# Altium footprint library 28pins_pcb_library.PcbLib: 27 footprints (part 1 of 2)
Each footprint in its own frame and in the unit in brackets; x right, y up, seen from the top. Pads: shape width x height; smd on the part's side, far side on the other; paste and mask are expansions set on the pad; w line width, h text height; cw(c..) or ccw(c..) is an arc to the next point about the centre after c.
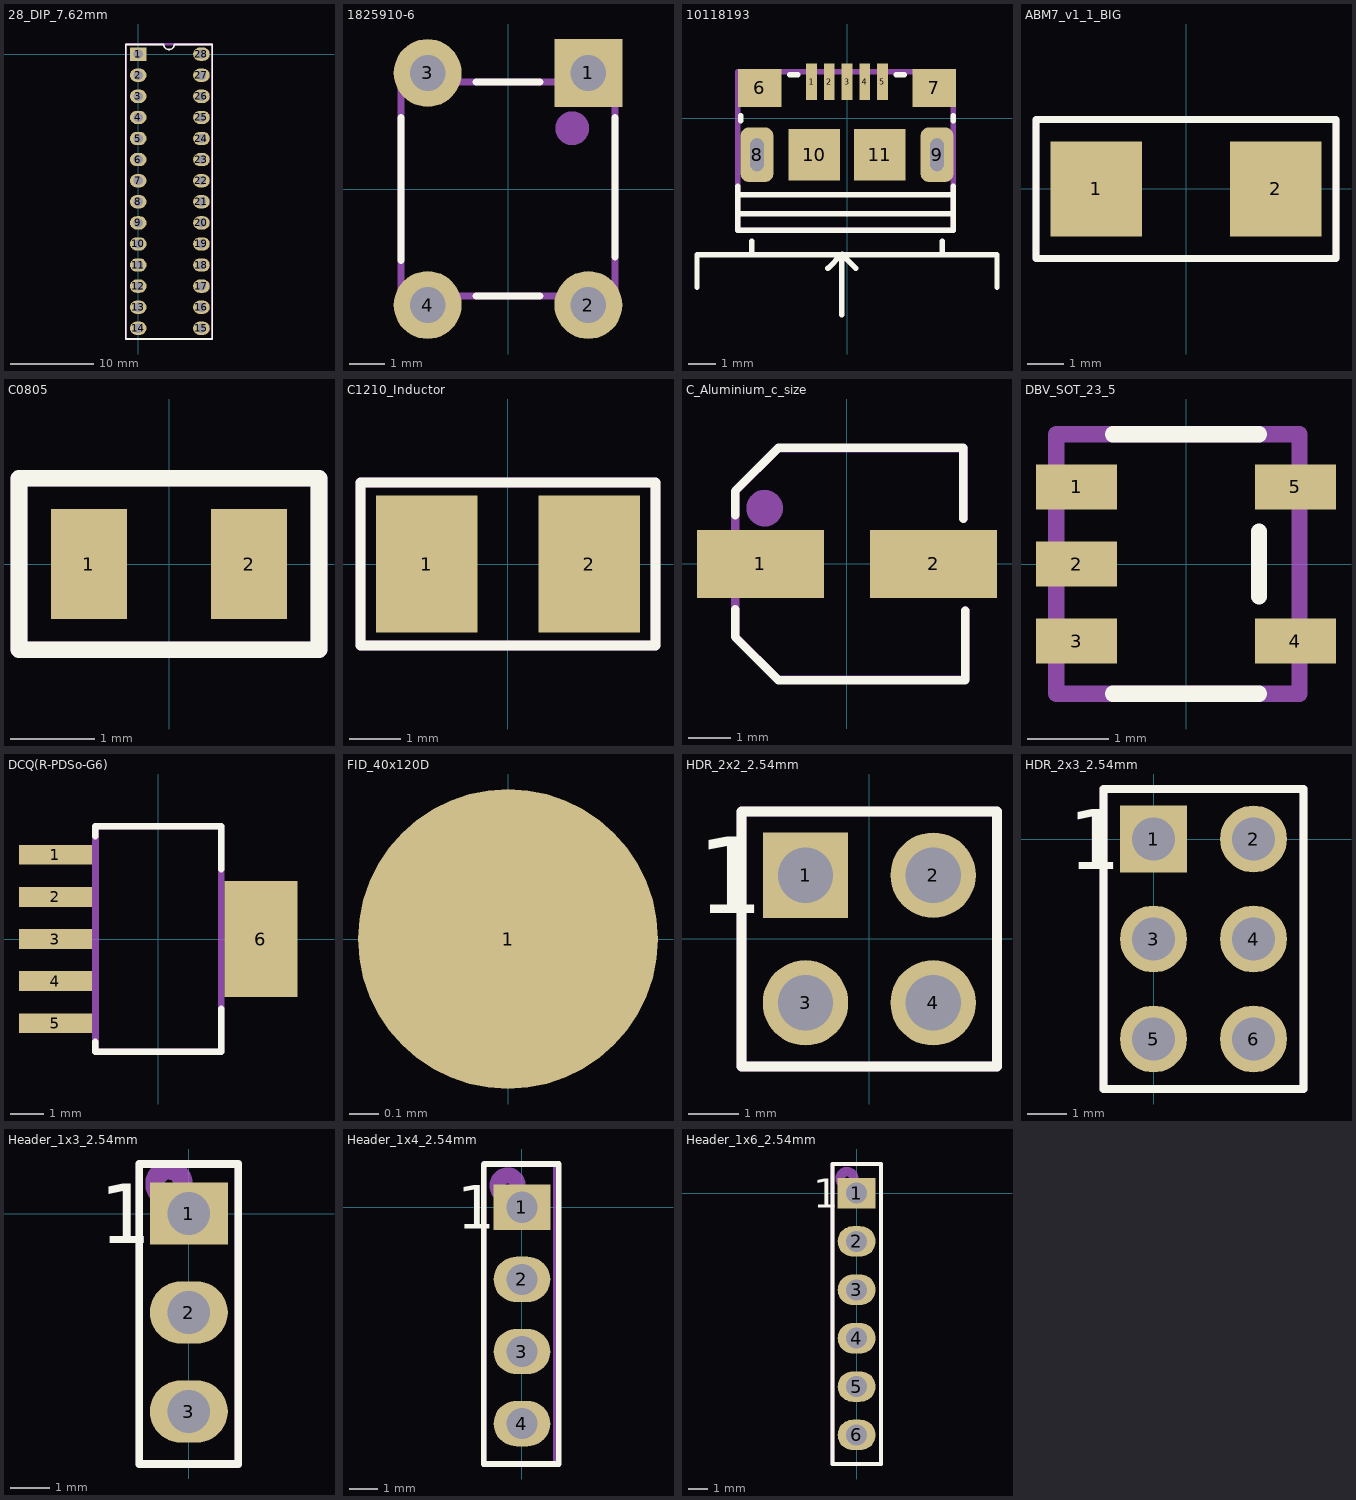
[diagram p0: the footprints below, top view; thin cyan lines are the x and y axes]

## 28-DIP Socket [mm]
3D body "dil_socket.stp": height 4.2, standoff -3.17, extent -1.65,-33.6 8.45,1.9

## 28_DIP_7.62mm [mm]
pads (28):
  rect 2x1.6 hole 1.1: 1(0,0)
  oval 2x1.6 hole 1.1: 2(0,-2.54) 3(0,-5.08) 4(0,-7.62) 5(0,-10.16) 6(0,-12.7) 7(0,-15.24) 8(0,-17.78) 9(0,-20.32) 10(0,-22.86) 11(0,-25.4) 12(0,-27.94) 13(0,-30.48) 14(0,-33.02) 15(7.62,-33.02) 16(7.62,-30.48) 17(7.62,-27.94) 18(7.62,-25.4) 19(7.62,-22.86) 20(7.62,-20.32) 21(7.62,-17.78) 22(7.62,-15.24) 23(7.62,-12.7) 24(7.62,-10.16) 25(7.62,-7.62) 26(7.62,-5.08) 27(7.62,-2.54) 28(7.62,0)
Top Overlay:
  lines w0.2: 3.075,1.17 -1.49,1.17 -1.49,-34.31 8.91,-34.31 8.91,1.17 4.345,1.17 ; 3.075,1.19 ccw(c3.71,1.19) 4.345,1.19
Mechanical 29:
  circle w0.5: c0.01,0.09 r0.2
  lines w0.254: -1.49,-34.31 8.91,-34.31 8.91,1.19 -1.49,1.19 -1.49,-34.31
  text ".designator" at 4.448,-22.256 h1.52
3D body "User Library-DIP28-300.step": height 5.08, standoff -2.49, extent 0.04,-34.61 7.91,1.39

## 1825910-6 [mm]
pads (4):
  rect 1.9x1.9 hole 1: 1(2.25,3.25)
  round 1.9 hole 1: 2(2.25,-3.25) 3(-2.25,3.25) 4(-2.25,-3.25)
Top Overlay:
  lines w0.2: -3,-2 -3,2 ; -0.9,-3 0.9,-3 ; -0.9,3 0.9,3 ; 3,-1.9 3,2
Mechanical 29:
  circle w0.5: c1.8,1.7 r0.224
  lines w0.2: -3,-3 -3,3 3,3 3,-3 -3,-3
  text ".Designator" at -2.146,0.267 h1
3D body "1825910-6--3DModel-STEP-418109.STEP": height 5.02, standoff -3.5, extent -2.995,-3.898 2.995,3.9

## 10118193 [mm]
pads (11):
  rect 0.4x1.35 smd mask+0.05: 1(-1.3,1.338) 2(-0.65,1.338) 3(0,1.338) 4(0.65,1.338) 5(1.3,1.338)
  rect 1.6x1.4 smd: 6(-3.2,1.112) 7(3.2,1.112)
  rrect50% 1.2x2 hole 0.5 slot 1.2 at 90 deg mask+0.05: 8(-3.3,-1.338) 9(3.3,-1.338)
  rect 1.9x1.9 smd: 10(-1.2,-1.338) 11(1.2,-1.338)
Top Overlay:
  lines w0.2: -5.5,-6.2 -5.5,-5 5.5,-5 5.5,-6.2 ; -4,-3.5 3.9,-3.5 ; -4,-2.8 -3.2,-2.8 3.8,-2.8 ; -4,-2.5 -4,-4.1 3.9,-4.1 3.9,-2.5 ; -3.9,-0.1 -3.9,0.1 ; -3.5,-4.9 -3.5,-4.5 ; -2.1,1.6 -1.8,1.6 ; -0.7,-5.5 -0.2,-5 ; -0.2,-7.2 -0.2,-5 ; -0.182,-4.991 0.318,-5.491 ; -0.15,-5.05 -0.15,-5 ; -0.1,-5 -0.2,-5 ; 1.8,1.6 2.1,1.6 ; 3.5,-4.9 3.5,-4.5 ; 3.9,-0.1 3.9,0.1 ; -0.2,-5 -0.2,-5 ; -0.2,-5 -0.2,-5
Mechanical 29:
  lines w0.2: -4,-4.1 3.9,-4.1 3.9,1.7 -4,1.7 -4,-4.1
  text ".designator" at -1.546,-0.592 h0.76
3D body "10118193-0001LF--3DModel-STEP-56544.STEP": height 2.71, standoff -0.89, extent -3.93,-4.062 3.93,1.647

## ABM7_v1_1_BIG [mm]
pads (2):
  rect 2.5x2.6 smd: 1(-2.45,0) 2(2.45,0)
Top Overlay:
  lines w0.2: -4.1,-1.9 -4.1,-0.75 -4.1,1.15 -4.1,1.9 4.1,1.9 4.1,-1.9 -4.1,-1.9
Mechanical 29:
  lines w0.2: 4.1,-1.9 4.1,1.9 -4.1,1.9 -4.1,-1.9 4.1,-1.9 ; 4.1,-1.9 4.1,-1.9
  text ".Designator" at -3.046,-0.238 h1.52
3D body "User Library-ABM7-1.SLDPRT": height 1.36, standoff -0.04, extent -3.106,-2 3.106,1.8

## C0805 [mm]
pads (2):
  rect 0.9x1.3 smd: 1(-0.95,0) 2(0.95,0)
Top Overlay:
  lines w0.2: -1.778,-1.016 1.778,-1.016 1.778,1.016 -1.778,1.016 -1.778,-1.016
Mechanical 29:
  lines w0.2: -1.778,-1.016 1.778,-1.016 1.778,1.016 -1.778,1.016 -1.778,-1.016
  text ".designator" at -1.016,-0.254 h1.52
3D body "CAPC2012X94N EIA 0805.step": height 1.71, standoff 0.51, extent -1,-0.508 1,0.432
3D body "CAPC2012X94N EIA 0805.step": height 1.21, standoff 0.01, extent -1,-0.508 1,0.432

## C1210_Inductor [mm]
pads (2):
  rect 2x2.7 smd: 1(-1.6,0) 2(1.6,0)
Top Overlay:
  lines w0.2: -2.9,-1.6 2.9,-1.6 2.9,1.6 -2.9,1.6 -2.9,-1.6
Mechanical 29:
  lines w0.2: -2.9,-1.6 2.9,-1.6 2.9,1.6 -2.9,1.6 -2.9,-1.6
  text ".designator" at -1.846,-0.092 h0.76
3D body: height 2.7, standoff 0, extent -1.678,-1.3 -1.3,1.29
3D body: height 2.7, standoff 0, extent 1.3,-1.295 1.656,1.295
3D body: height 2.7, standoff 0, extent -1.3,-1.3 1.3,1.3

## C_Aluminium_c_size [mm]
pads (2):
  rect 3x1.6 smd: 1(-2.05,0) 2(2.05,0)
Top Overlay:
  lines w0.2: -2.65,-1.725 -1.625,-2.75 ; -2.65,-1.675 -2.65,-1.075 ; -2.65,1.15 -2.65,1.725 -1.625,2.75 -1.25,2.75 2.75,2.75 2.75,1.075 ; -1.575,-2.75 2.8,-2.75 2.8,-1.1
Mechanical 29:
  circle w0.5: c-1.95,1.321 r0.183
  lines w0.2: 2.769,1.067 2.769,2.743 -1.626,2.743 -2.65,1.719 -2.65,-1.7 -2.65,-1.719 -1.626,-2.743 2.769,-2.743 2.794,-2.718 2.794,-1.092
  text ".designator" at -1.702,0.025 h0.76
3D body "User Library-capacitor size C.step": height 5.42, standoff 0.01, extent -2.9,-2.675 3,2.625

## DBV_SOT_23_5 [mm]
pads (5):
  rect 1x0.55 smd: 1(-1.35,0.95) 2(-1.35,0) 3(-1.35,-0.95) 4(1.35,-0.95) 5(1.35,0.95)
Top Overlay:
  lines w0.2: -0.9,-1.6 0.9,-1.6 ; -0.9,1.6 0.9,1.6 ; 0.9,-0.4 0.9,0.4
Mechanical 29:
  lines w0.2: -1.6,-1.6 -1.6,1.6 1.4,1.6 1.4,-1.6 -1.6,-1.6
  text ".designator" at -1.246,-1.038 h1.52
3D body "User Library-TPS560200DBV.step": height 1.45, standoff 0, extent -1.614,-1.5 1.414,1.5

## DCQ(R-PDSo-G6) [mm]
pads (6):
  rect 2.2x0.6 smd: 1(-3.1,2.54) 2(-3.1,1.27) 3(-3.1,0) 4(-3.1,-1.27) 5(-3.1,-2.54)
  rect 2.2x3.5 smd: 6(3.1,0)
Top Overlay:
  lines w0.2: -1.9,-3.1 -1.9,-3.4 1.9,-3.4 1.9,-2.1 ; -1.9,3.1 -1.9,3.4 1.9,3.4 1.9,2.1
Mechanical 29:
  lines w0.2: -1.905,-3.073 -1.905,-3.378 -1.88,-3.404 1.905,-3.404 1.905,3.404 -1.905,3.404 -1.892,3.391 -1.892,-3.391
  text ".designator" at 0.392,-1.446 h0.76
3D body "User Library-TPS73701DCQ.step": height 1.71, standoff -0.09, extent -3.73,-3.275 3.53,3.275

## FID_40x120D [mil]
pads (1):
  round 40 smd paste-40 mask+40: 1(0,0)

## HDR_2x2_2.54mm [mm]
pads (4):
  rect 1.7x1.7 hole 1.1: 1(-1.27,1.27)
  round 1.7 hole 1.1: 2(1.27,1.27) 3(-1.27,-1.27) 4(1.27,-1.27)
Top Overlay:
  lines w0.2: 2.538,-2.541 2.54,0.635 2.54,2.54 -2.54,2.54 -2.54,-2.54 2.54,-2.54
  text "1" at -3.429,0.508 h1.52
Mechanical 29:
  circle w0.5: c-1.651,1.651 r0.18
  lines w0.2: -2.54,-2.54 2.54,-2.54 2.54,2.54 -2.54,2.54 -2.54,-2.54
  text ".designator" at 0,-1.524 h1.52
3D body "s10129381-X04003XLF.stp": height 10.43, standoff -3.24, extent -2.54,-2.415 2.54,2.415

## HDR_2x3_2.54mm [mm]
pads (6):
  rect 1.7x1.7 hole 1.1: 1(0,0)
  round 1.7 hole 1.1: 2(2.54,0) 3(0,-2.54) 4(2.54,-2.54) 5(0,-5.08) 6(2.54,-5.08)
Top Overlay:
  lines w0.2: -1.27,-6.35 -1.27,1.27 3.81,1.27 3.81,-0.635 3.81,-4.445 3.81,-6.35 -1.27,-6.35
  text "1" at -2.159,-0.762 h1.52
Mechanical 29:
  circle w0.5: c-0.381,0.381 r0.18
  lines w0.2: -1.27,-6.35 -1.27,1.27 3.81,1.27 3.81,-6.35 -1.27,-6.35
  text ".designator" at 1.524,-4.191 h1.52
3D body "HMTSW-103-07-L-D-275.stp": height 9.03, standoff -1.89, extent -1.219,-6.35 3.81,1.27

## Header_1x3_2.54mm [mm]
pads (3):
  rect 2x1.6 hole 1.1: 1(0,0)
  oval 2x1.6 hole 1.1: 2(0,-2.54) 3(0,-5.08)
Top Overlay:
  lines w0.2: -1.27,-6.426 -1.27,1.27 1.27,1.27 1.27,-6.426 -1.27,-6.426
  text "1" at -2.286,-0.762 h1.52
Mechanical 29:
  circle w0.5: c-0.508,0.762 r0.359
  lines w0.2: -1.27,-6.426 1.27,-6.426 1.27,1.27 -1.27,1.27 -1.27,-6.426
  text ".designator" at 0.508,-4.572 h1.52
3D body "68000-103HLF--3DModel-STEP-533217.STEP": height 8.19, standoff -2.6, extent -1.168,-6.35 1.245,1.27

## Header_1x4_2.54mm [mm]
pads (4):
  rect 2x1.6 hole 1.1: 1(0,0)
  oval 2x1.6 hole 1.1: 2(0,-2.54) 3(0,-5.08) 4(0,-7.62)
Top Overlay:
  lines w0.2: -1.346,-9.042 -0.33,-9.042 1.3,-9.042 1.3,1.524 -1.321,1.524 -1.346,1.499 -1.346,-9.042
  text "1" at -2.286,-0.762 h1.52
Mechanical 29:
  circle w0.559: c-0.508,0.762 r0.359
  lines w0.2: -1.346,1.524 -1.346,-9.042 1.194,-9.042 1.194,1.524 -1.321,1.524
  text ".designator" at 0.127,-6.375 h1.52
3D body "68000-204HLF--3DModel-STEP-56544.STEP": height 8.2, standoff -2.6, extent -1.281,-8.839 1.129,1.321

## Header_1x6_2.54mm [mm]
pads (6):
  rect 2x1.6 hole 1.1: 1(0,0)
  oval 2x1.6 hole 1.1: 2(0,-2.54) 3(0,-5.08) 4(0,-7.62) 5(0,-10.16) 6(0,-12.7)
Top Overlay:
  lines w0.2: -1.27,-14.224 -0.254,-14.224 1.27,-14.224 1.27,1.524 -1.27,1.524 -1.27,-14.224
  text "1" at -2.286,-0.762 h1.52
Mechanical 29:
  circle w0.5: c-0.508,0.762 r0.359
  lines w0.2: -1.27,-14.224 1.27,-14.224 1.27,1.524 -1.27,1.524 -1.27,-14.224
  text ".designator" at 0.508,-12.192 h1.52
3D body "m20-7820646.stp": height 8.31, standoff -3.19, extent -1.25,-14.17 1.25,1.47